# EAGLE library part HD04-19-TH-TR (library HD04-19-TH-TR)
HDMI RECEPTACLE
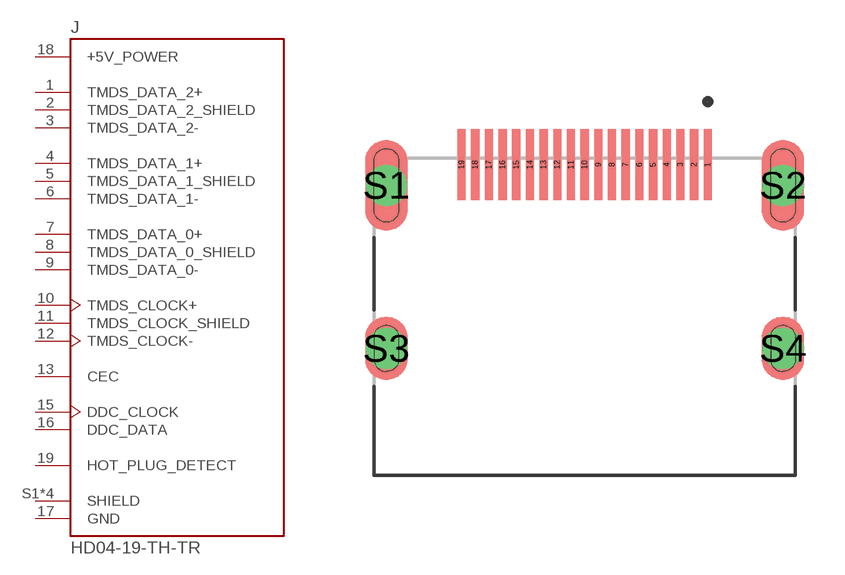
[diagram p0: symbol with the pads of CUI_HD04-19-TH-TR; footprint CUI_HD04-19-TH-TR]

Designator prefix J

## HD04-19-TH-TR (MANUFACTURER: CUI Devices; MAXIMUM_PACKAGE_HEIGHT: 6.27mm; PARTREV: 1.0; STANDARD: Manufacturer Recommendations)  [CUI_HD04-19-TH-TR]
1  TMDS_DATA_2+
2  TMDS_DATA_2_SHIELD  pas
3  TMDS_DATA_2-
4  TMDS_DATA_1+
5  TMDS_DATA_1_SHIELD  pas
6  TMDS_DATA_1-
7  TMDS_DATA_0+
8  TMDS_DATA_0_SHIELD  pas
9  TMDS_DATA_0-
10  TMDS_CLOCK+
11  TMDS_CLOCK_SHIELD  pas
12  TMDS_CLOCK-
13  CEC
15  DDC_CLOCK
16  DDC_DATA
17  GND  pwr
18  +5V_POWER  pwr
19  HOT_PLUG_DETECT  in
S1  SHIELD  pas
S2  SHIELD  pas
S3  SHIELD  pas
S4  SHIELD  pas

## Footprint CUI_HD04-19-TH-TR (pad centres in mm)
smd 0.3 x 2.6: 1 4.5,6.72; 2 4,6.72; 3 3.5,6.72; 4 3,6.72; 5 2.5,6.72; 6 2,6.72; 7 1.5,6.72; 8 1,6.72; 9 0.5,6.72; 10 0,6.72; 11 -0.5,6.72; 12 -1,6.72; 13 -1.5,6.72; 14 -2,6.72; 15 -2.5,6.72; 16 -3,6.72; 17 -3.5,6.72; 18 -4,6.72; 19 -4.5,6.72
drill 0.9 pad 1.5: S1 -7.25,5.96; S2 7.25,5.96; S3 -7.25,0; S4 7.25,0